# Altium schematic symbol library SWD-TAG-CONNECT.Schlib: 1 symbol
Pins are listed as number, name and electrical type; pins without a type are passive.

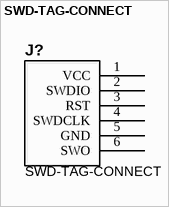
[diagram p0: symbol SWD-TAG-CONNECT]

## SWD-TAG-CONNECT
designator J?  (no BOM)
Tag Connect Pads for ARM SWD Debugging; Internal Part Number: NAN; Manufacturer: Wavenumber; Manufacturer Part Number: SWD-TAG-CONNECT; JLCPCB Part #: NAN; Value: SWD-TAG-CONNECT; Manufacturer 1: NAN; Manufacturer Part Number 1: NAN
footprint TC2030
footprint NAN
pins: 1 VCC, 2 SWDIO, 3 RST, 4 SWDCLK, 5 GND, 6 SWO